# Altium schematic symbol library parts.SchLib: 1 symbol
Pins are listed as number, name and electrical type; pins without a type are passive.

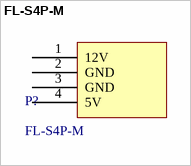
[diagram p0: symbol FL-S4P-M]

## FL-S4P-M
designator P?
Small 4Pin Power Connector(Male)
footprint FL-S4P-M
pins: 1 12V, 2 GND, 3 GND, 4 5V